# EAGLE library part MAX3232 (library IC)
3V to 5.5V Multichannel RS-232 Line Driver/Reciever with 15kV ESD Protection
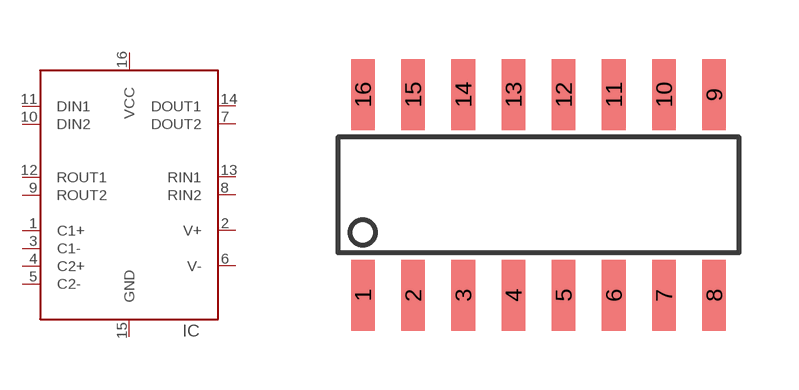
[diagram p38: symbol with the pads of SOIC16; footprint SOIC16]

Designator prefix IC

## MAX3232  [SOIC16]
1  C1+
2  V+
3  C1-
4  C2+
5  C2-
6  V-
7  DOUT2
8  RIN2
9  ROUT2
10  DIN2
11  DIN1
12  ROUT1
13  RIN1
14  DOUT1
15  GND  pwr
16  VCC  pwr

## Footprint SOIC16 (pad centres in mm)
SOIC-16, 1.27mm pitch, 6.2mm width, 10.0mm length
smd 0.6 x 1.8: 1 -3.81,-2.54; 2 -2.54,-2.54; 3 -1.27,-2.54; 4 0,-2.54; 5 1.27,-2.54; 6 2.54,-2.54; 7 3.81,-2.54; 8 5.08,-2.54; 9 5.08,2.54; 10 3.81,2.54; 11 2.54,2.54; 12 1.27,2.54; 13 0,2.54; 14 -1.27,2.54; 15 -2.54,2.54; 16 -3.81,2.54